# Altium footprint library ld_pulser.PcbLib: 47 footprints (part 1 of 3)
Each footprint in its own frame and in the unit in brackets; x right, y up, seen from the top. Pads: shape width x height; smd on the part's side, far side on the other; paste and mask are expansions set on the pad; w line width, h text height; cw(c..) or ccw(c..) is an arc to the next point about the centre after c.
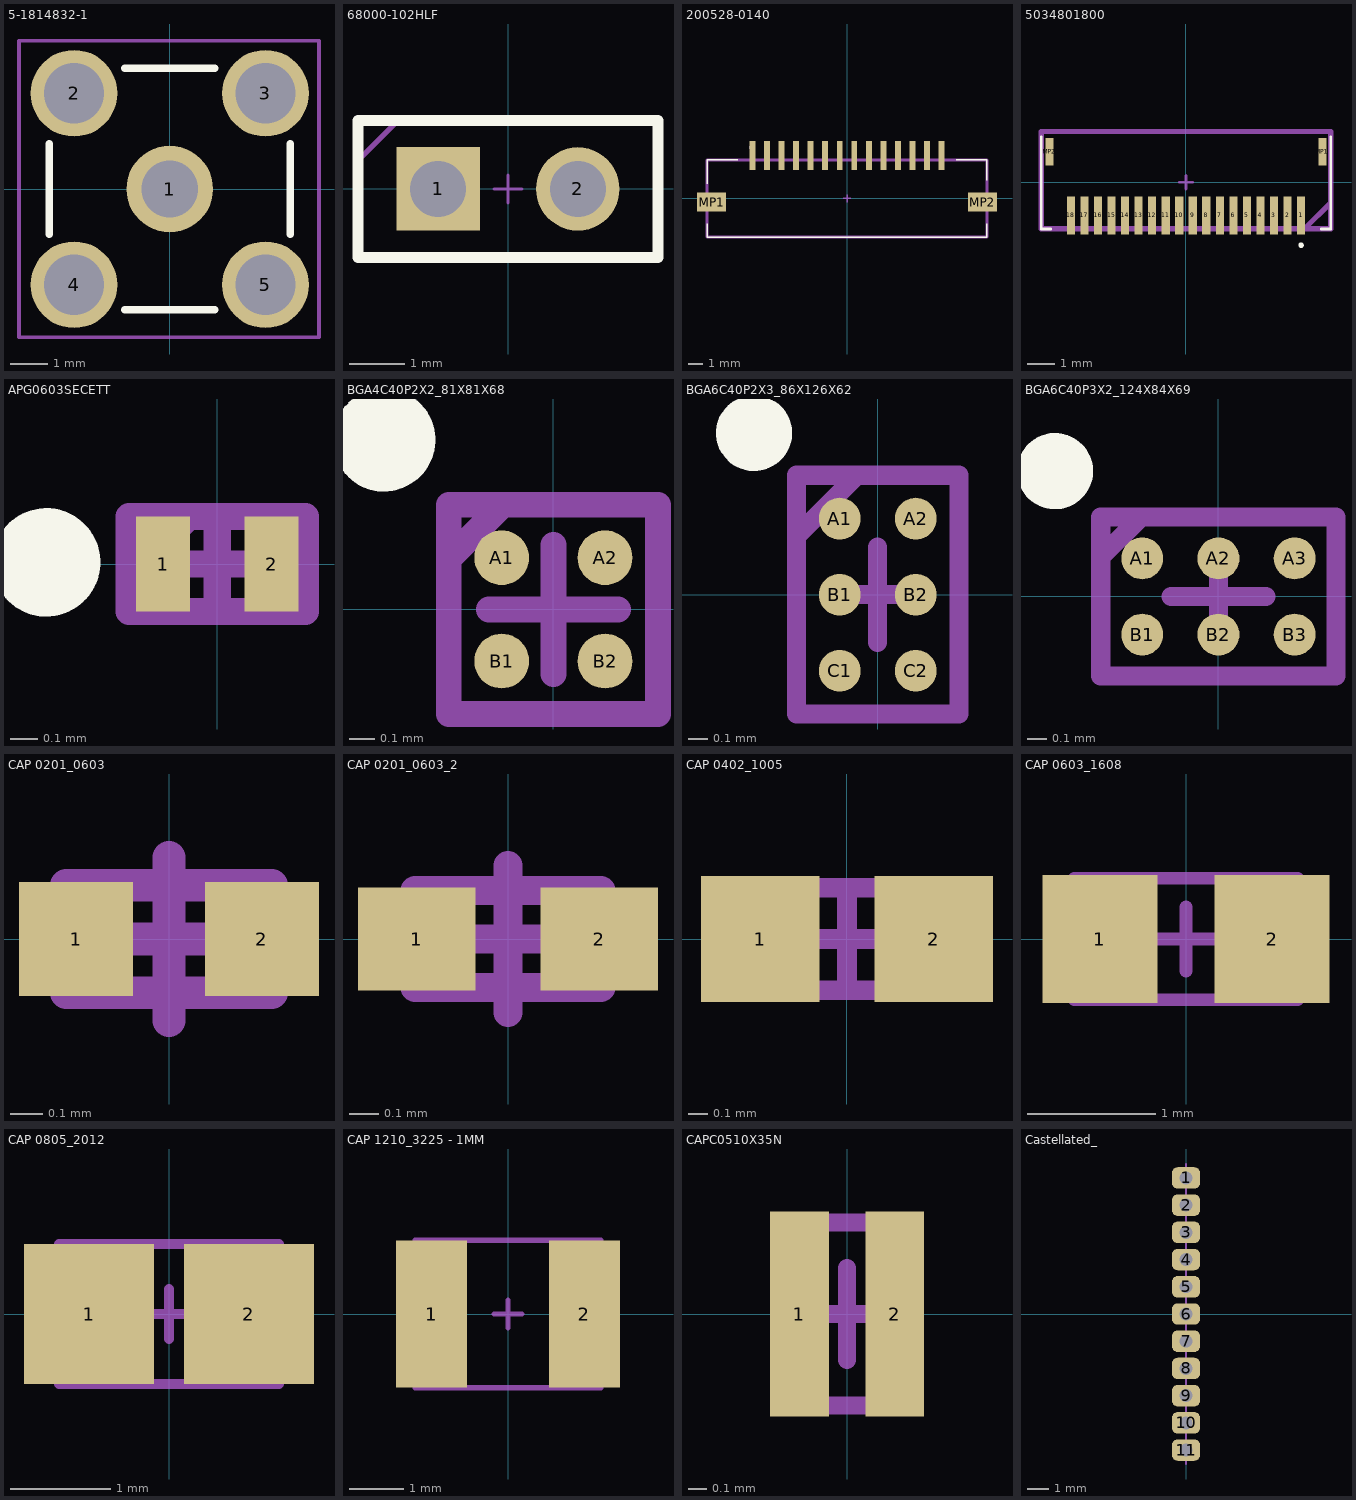
[diagram p0: the footprints below, top view; thin cyan lines are the x and y axes]

## 5-1814832-1 [mm]
pads (5):
  round 2.3 hole 1.5: 1(0,0)
  round 2.3 hole 1.6: 2(-2.54,2.54) 3(2.54,2.54) 4(-2.54,-2.54) 5(2.54,-2.54)
Top Overlay:
  lines w0.2: -3.2,-1.2 -3.2,1.2 ; -1.2,-3.2 1.2,-3.2 ; -1.2,3.2 1.2,3.2 ; 3.2,-1.2 3.2,1.2
Board:
  lines w0.1: -0.5,0 0.5,0 ; 0,-0.5 0,0.5 ; -4,-3.932 -4,-0.225 -4,3.932 1.932,3.932 2.425,3.932 3.96,3.932 3.96,1.64 3.96,-3.932 -1.968,-3.932 -2.375,-3.932 -4,-3.932
3D body "c-5-1814832-1-b-3d.stp": height 9.51, standoff -3.99, extent -3.2,-3.2 3.2,3.2

## 68000-102HLF [mm]
pads (2):
  rect 1.52x1.52 hole 1.02: 1(-1.27,0)
  round 1.52 hole 1.02: 2(1.27,0)
Top Overlay:
  lines w0.2: -2.73,-1.245 -2.73,1.245 2.73,1.245 2.73,-1.245 -2.73,-1.245
Top Assembly:
  lines w0.1: -2.73,0.52 -2.005,1.245 0,1.245 ; -2.73,1.245 -2.73,-1.245 2.73,-1.245 2.73,1.245 -2.73,1.245
Top Component Center (Mech15):
  lines w0.05: -0.254,0 0.254,0 ; 0,-0.254 0,0.254
3D body "68000-102HLF.step": height 8.39, standoff -2.4, extent -2.54,-1.206 2.54,1.207

## 200528-0140 [mm] "Conn FPC 14 POS 1 mm"
pads (16):
  rect 0.4x2 smd: 1(-6.5,2.95) 2(-5.5,2.95) 3(-4.5,2.95) 4(-3.5,2.95) 5(-2.5,2.95) 6(-1.5,2.95) 7(-0.5,2.95) 8(0.5,2.95) 9(1.5,2.95) 10(2.5,2.95) 11(3.5,2.95) 12(4.5,2.95) 13(5.5,2.95) 14(6.5,2.95)
  rect 2x1.3 smd: MP1(-9.3,-0.25) MP2(9.3,-0.25)
Top Overlay:
  lines w0.1: 7.5,2.65 9.6,2.65 ; 7.6,-2.65 -9.6,-2.65 ; 9.6,-1.75 9.6,-2.65 -9.6,-2.65 ; -9.6,-2.65 -9.6,-1.75 -9.6,-2.65 ; -9.6,2.65 -7.5,2.65 -9.6,2.65 ; -9.6,2.65 -9.6,1 -9.6,2.65 ; 9.6,2.65 9.6,1.25 9.6,2.65
  lines w0.2: -6.6,3.5 ccw(c-6.55,3.5) -6.5,3.5 ; -6.6,3.5 cw(c-6.55,3.5) -6.5,3.5 ; -6.6,3.5 ccw(c-6.55,3.5) -6.5,3.5
Top 3D Body:
  lines w0.2: -9.6,-2.65 9.6,-2.65 9.6,2.65 -9.6,2.65 -9.6,-2.65
Top Component Center (Mech15):
  lines w0.1: -0.25,0 0.25,0 ; 0,-0.25 0,0.25
3D body "2005280140.stp": height 1.88, standoff -0.02, extent -10,-2.6 10,2.7

## 5034801800 [mm]
pads (20):
  rect 0.3x1.4 smd: 1(4.25,-1.225) 2(3.75,-1.225) 3(3.25,-1.225) 4(2.75,-1.225) 5(2.25,-1.225) 6(1.75,-1.225) 7(1.25,-1.225) 8(0.75,-1.225) 9(0.25,-1.225) 10(-0.25,-1.225) 11(-0.75,-1.225) 12(-1.25,-1.225) 13(-1.75,-1.225) 14(-2.25,-1.225) 15(-2.75,-1.225) 16(-3.25,-1.225) 17(-3.75,-1.225) 18(-4.25,-1.225)
  rect 0.3x1 smd: MP1(5.04,1.125) MP2(-5.04,1.125)
Top Overlay:
  lines w0.1: -5.35,1.675 -5.35,-1.725 -5,-1.725 ; 5,-1.725 5.35,-1.725 5.35,1.675 ; 4.2,-2.325 cw(c4.25,-2.325) 4.3,-2.325 cw(c4.25,-2.325) 4.2,-2.325
Top Assembly:
  lines w0.1: 4.4,-1.7 4.4,-1.7 ; 4.4,-1.7 4.4,-1.7
  lines w0.2: 4.4,-1.7 5.3,-0.8 ; -5.35,-1.725 -5.35,1.875 5.35,1.875 5.35,-1.725 -5.35,-1.725
Top Component Center (Mech15):
  lines w0.1: -0.25,0 0.25,0 ; 0,-0.25 0,0.25
3D body "5034801800.stp": height 1.85, standoff -0.02, extent -5.35,-1.8 5.35,1.8

## APG0603SECETT [mm]
pads (2):
  rect 0.2x0.35 smd: 1(-0.2,0) 2(0.2,0)
Top Overlay:
  circle w0.2: c-0.631,0.006 r0.1
Top Assembly:
  lines w0.1: -0.325,0 -0.281,0 -0.114,0.167 ; -0.325,-0.175 -0.325,0.175 0.325,0.175 0.325,-0.175 -0.325,-0.175
Top Component Center (Mech15):
  lines w0.1: -0.125,0 0.125,0 ; 0,-0.125 0,0.125
3D body "APG0603SEC-E-TT.stp": height 0.3, standoff 0, extent -0.325,-0.175 0.325,0.175

## BGA4C40P2X2_81X81X68 [mm]
pads (4):
  round 0.212 smd: A1(-0.2,0.2) A2(0.2,0.2) B1(-0.2,-0.2) B2(0.2,-0.2)
Top Overlay:
  circle w0.2: c-0.656,0.656 r0.1
Top Assembly:
  lines w0.1: -0.405,0.195 -0.195,0.405 ; -0.405,-0.405 -0.405,0.405 0.405,0.405 0.405,-0.405 -0.405,-0.405
Top Component Center (Mech15):
  lines w0.1: -0.25,0 0.25,0 ; 0,-0.25 0,0.25
3D body "LM94023BITME_NOPB.stp": height 0.67, standoff 0, extent -0.405,-0.405 0.405,0.405

## BGA6C40P2X3_86X126X62 [mm]
pads (6):
  round 0.22 smd: A1(-0.2,0.4) A2(0.2,0.4) B1(-0.2,0) B2(0.2,0) C1(-0.2,-0.4) C2(0.2,-0.4)
Top Overlay:
  circle w0.2: c-0.65,0.85 r0.1
Top Assembly:
  lines w0.1: -0.428,0.306 -0.107,0.627 ; -0.428,-0.627 0.427,-0.627 0.427,0.628 -0.428,0.628 -0.428,-0.627
Top Component Center (Mech15):
  lines w0.1: -0.25,0 0.25,0 ; 0,-0.25 0,0.25
3D body "LMG1020YFFR.stp": height 0.63, standoff 0, extent -0.427,-0.627 0.427,0.627

## BGA6C40P3X2_124X84X69 [mm]
pads (6):
  round 0.22 smd: A1(-0.4,0.2) A2(0,0.2) A3(0.4,0.2) B1(-0.4,-0.2) B2(0,-0.2) B3(0.4,-0.2)
Top Overlay:
  circle w0.2: c-0.858,0.658 r0.1
Top Assembly:
  lines w0.1: -0.618,0.205 -0.406,0.417 ; -0.618,-0.417 0.617,-0.417 0.617,0.418 -0.618,0.418 -0.618,-0.417
Top Component Center (Mech15):
  lines w0.1: -0.25,0 0.25,0 ; 0,-0.25 0,0.25
3D body "MAX40007ANT+.stp": height 0.69, standoff 0, extent -0.617,-0.417 0.617,0.417

## CAP 0201_0603 [mm] "Chip Capacitor, 2-Leads, Body 0.60x0.30mm, IPC Medium Density"
height 0.33
pads (2):
  rect 0.35x0.35 smd: 1(-0.285,0) 2(0.285,0)
Top Assembly:
  lines w0.1: -0.315,-0.165 0.315,-0.165 0.315,0.165 -0.315,0.165 -0.315,-0.165
Top Component Center (Mech15):
  lines w0.1: -0.25,0 0.25,0 ; 0,-0.25 0,0.25
3D body "CAP 0201.STEP": height 0.3, standoff 0, extent -0.3,-0.15 0.3,0.15

## CAP 0201_0603_2 [mm]
pads (2):
  rect 0.4x0.35 smd: 1(-0.31,0) 2(0.31,0)
Top Assembly:
  lines w0.1: -0.315,-0.165 0.315,-0.165 0.315,0.165 -0.315,0.165 -0.315,-0.165
Top Component Center (Mech15):
  lines w0.1: -0.25,0 0.25,0 ; 0,-0.25 0,0.25
3D body "CAP 0201.STEP": height 0.3, standoff 0, extent -0.3,-0.15 0.3,0.15

## CAP 0402_1005 [mm] "Chip Capacitor, 2-Leads, Body 1.02x0.51mm, IPC Medium Density"
height 0.52
pads (2):
  rect 0.6x0.64 smd: 1(-0.44,0) 2(0.44,0)
Top Assembly:
  lines w0.1: -0.515,-0.26 0.515,-0.26 0.515,0.26 -0.515,0.26 -0.515,-0.26
Top Component Center (Mech15):
  lines w0.1: -0.25,0 0.25,0 ; 0,-0.25 0,0.25
3D body "0402 cap.STEP": height 0.52, standoff 0, extent -0.5,-0.262 0.5,0.262

## CAP 0603_1608 [mm] "Chip Capacitor, 2-Leads, Body 1.60x0.80mm, IPC Medium Density"
height 0.89
pads (2):
  rect 0.9x1 smd: 1(-0.675,0) 2(0.675,0)
Top Assembly:
  lines w0.1: -0.875,-0.475 0.875,-0.475 0.875,0.475 -0.875,0.475 -0.875,-0.475
Top Component Center (Mech15):
  lines w0.1: -0.25,0 0.25,0 ; 0,-0.25 0,0.25
3D body "0603 cap.STEP": height 0.82, standoff 0, extent -0.8,-0.412 0.8,0.412

## CAP 0805_2012 [mm] "Chip Capacitor, 2-Leads, Body 2.00x1.20mm, IPC Medium Density"
height 1.15
pads (2):
  rect 1.3x1.4 smd: 1(-0.8,0) 2(0.8,0)
Top Assembly:
  lines w0.1: -1.1,-0.7 1.1,-0.7 1.1,0.7 -1.1,0.7 -1.1,-0.7
Top Component Center (Mech15):
  lines w0.1: -0.25,0 0.25,0 ; 0,-0.25 0,0.25
3D body "0805 cap.STEP": height 1.26, standoff -0.02, extent -1,-0.637 1,0.637

## CAP 1210_3225 - 1MM [mm] "Chip Capacitor, 2-Leads, Body 3.20x2.50mm, IPC Medium Density"
height 1
pads (2):
  rect 1.3x2.7 smd: 1(-1.4,0) 2(1.4,0)
Top Assembly:
  lines w0.1: -1.7,-1.35 -1.7,1.35 1.7,1.35 1.7,-1.35 -1.7,-1.35
Top Component Center (Mech15):
  lines w0.1: -0.25,0 0.25,0 ; 0,-0.25 0,0.25
3D body "CAP 1210-1mm.STEP": height 1, standoff 0, extent -1.6,-1.25 1.6,1.25

## CAPC0510X35N [mm]
pads (2):
  rect 0.323x1.12 smd: 1(-0.26,0)
  rect 0.32x1.12 smd: 2(0.26,0)
Top Assembly:
  lines w0.1: -0.26,-0.5 0.26,-0.5 0.26,0.5 -0.26,0.5 -0.26,-0.5
Top Component Center (Mech15):
  lines w0.1: -0.25,0 0.25,0 ; 0,-0.25 0,0.25
3D body "CGAEA1X7R1H473M030BC.stp": height 0.35, standoff 0, extent -0.26,-0.5 0.26,0.5

## Castellated_ [mm] "Castellated holes, 11 pin, 0.6 mm hole diameter, 1.27 mm pitch"
pads (11):
  rrect50% 1.3x1 hole 0.6: 1(0,6.35) 2(0,5.08) 3(0,3.81) 4(0,2.54) 5(0,1.27) 6(0,0) 7(0,-1.27) 8(0,-2.54) 9(0,-3.81) 10(0,-5.08) 11(0,-6.35)
Board:
  lines w0.1: 0,-7 0,7
  text "Board Edge" at 0.3,2.94 h0.6
Top Component Center (Mech15):
  lines w0.1: -0.5,0 0.5,0 ; 0,-0.5 0,0.5
3D body: height 0, standoff -0.1, extent -0.35,-0.5 0,0.5
3D body: height 0, standoff -0.1, extent -0.35,0.77 0,1.77
3D body: height 0, standoff -0.1, extent -0.35,2.04 0,3.04
3D body: height 0, standoff -0.1, extent -0.35,3.31 0,4.31
3D body: height 0, standoff -0.1, extent -0.35,4.58 0,5.58
3D body: height 0, standoff -0.1, extent -0.35,5.85 0,6.85
3D body: height 0, standoff -0.1, extent -0.35,-6.85 0,-5.85
3D body: height 0, standoff -0.1, extent -0.35,-5.58 0,-4.58
3D body: height 0, standoff -0.1, extent -0.35,-4.31 0,-3.31
3D body: height 0, standoff -0.1, extent -0.35,-3.04 0,-2.04
3D body: height 0, standoff -0.1, extent -0.35,-1.77 0,-0.77